# Altium integrated library SensorStatic.IntLib: 2 symbols
Pins are listed as number, name and electrical type; pins without a type are passive.

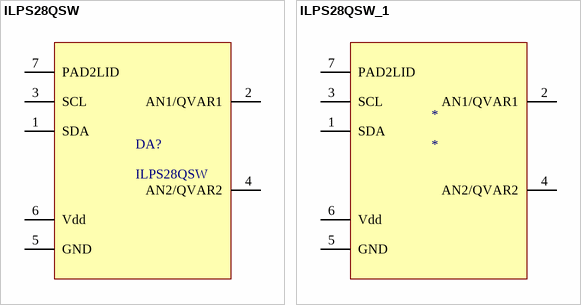
[diagram p0: symbols ILPS28QSW to ILPS28QSW_1]

## ILPS28QSW
designator DA?
footprint ILPS28QSW
pins: 1 SDA, 2 AN1/QVAR1, 3 SCL, 4 AN2/QVAR2, 5 GND, 6 Vdd, 7 PAD2LID

## ILPS28QSW_1
designator *
footprint ILPS28QSW_Adapter
pins: 1 SDA, 2 AN1/QVAR1, 3 SCL, 4 AN2/QVAR2, 5 GND, 6 Vdd, 7 PAD2LID